# Altium footprint library Custom Components.PcbLib: 37 footprints (part 1 of 3)
Each footprint in its own frame and in the unit in brackets; x right, y up, seen from the top. Pads: shape width x height; smd on the part's side, far side on the other; paste and mask are expansions set on the pad; w line width, h text height; cw(c..) or ccw(c..) is an arc to the next point about the centre after c.
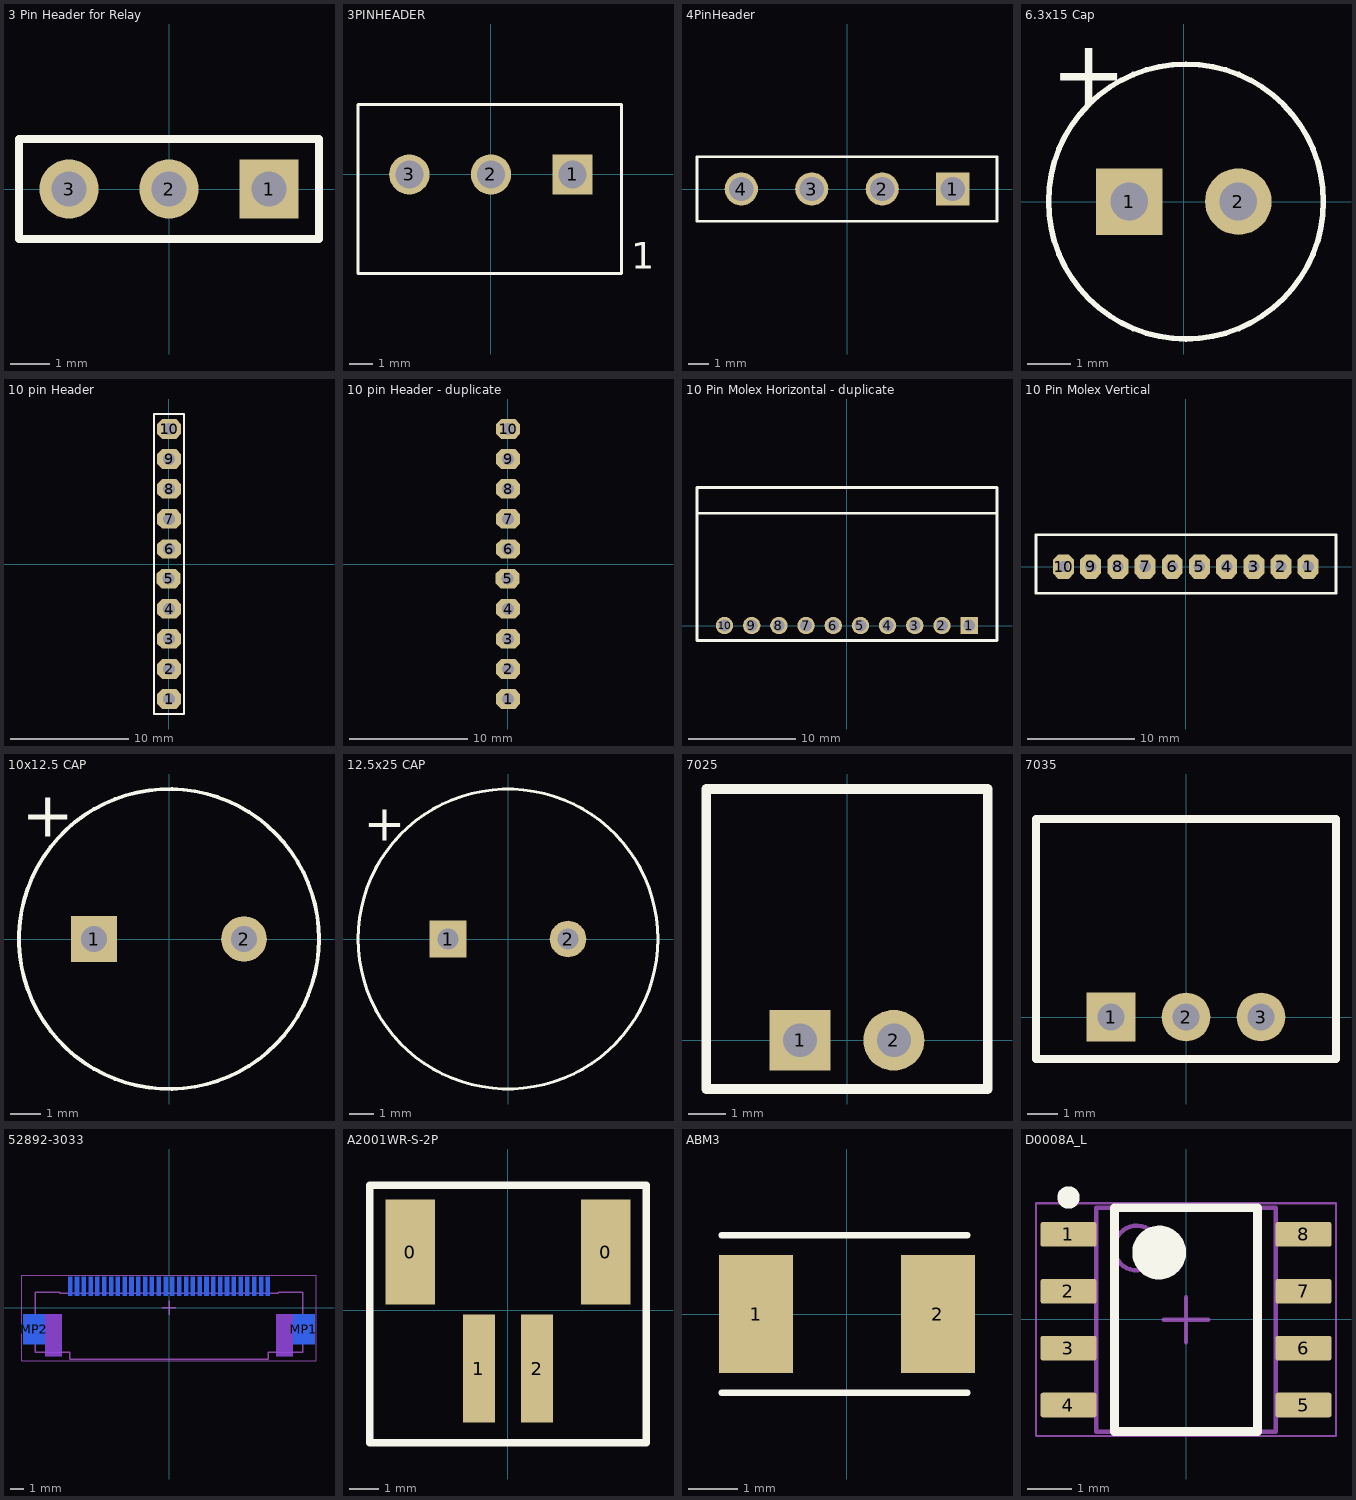
[diagram p0: the footprints below, top view; thin cyan lines are the x and y axes]

## 3 Pin Header for Relay [mm]
pads (3):
  rect 1.5x1.5 hole 0.9: 1(2.54,0)
  round 1.5 hole 0.9: 2(0,0) 3(-2.54,0)
Top Overlay:
  lines w0.2: -3.81,-1.27 3.81,-1.27 3.81,1.27 -3.81,1.27 -3.81,-1.27
Top Designator:
  text ".Designator" at -3.758,1.596 h0.89
3D body "Pin Header 1x3.step": height 8.72, standoff -2.82, extent -3.783,-1.289 3.837,1.251

## 3PINHEADER [mil] "3 Pin Header for Poenix right angle vertical"
pads (3):
  rect 68x68 hole 47.24: 1(137.8,0)
  round 68 hole 47.24: 2(0,0) 3(-137.8,0)
Top Overlay:
  lines w5: -224.41,-167.32 220.47,-167.32 220.47,118.11 -224.41,118.11 -224.41,-167.32
  text "1" at 237,-159.5 h45
Top Designator:
  text ".Designator" at -223.44,130.84 h35

## 4PinHeader [mm] "4 Pin Header for Poenix right angle vertical"
pads (4):
  rect 1.65x1.65 hole 1.2: 1(5.25,0)
  round 1.65 hole 1.2: 2(1.75,0) 3(-1.75,0) 4(-5.25,0)
Top Overlay:
  lines w0.127: -7.45,-1.6 7.45,-1.6 7.45,1.6 -7.45,1.6 -7.45,-1.6
Top Designator:
  text ".Designator" at -7.415,1.939 h0.89

## 6.3x15 Cap [mil] "6.3x15 Cap"
height 590.55
pads (2):
  rect 60x60 hole 34: 1(-49.21,0)
  round 60 hole 34: 2(49.21,0)
Top Overlay:
  circle w5: c1.97,0 r124.02
  text "+" at -120.08,86.61 h60
Top Designator:
  text ".Designator" at -160.94,-168.66 h35
3D body: height 590.55, standoff 0, extent -122.03,-124 125.96,124
3D body: height 78.74, standoff -39.37, extent -57.02,-7.85 -41.33,7.87
3D body: height 78.74, standoff -39.37, extent 41.41,-7.85 57.09,7.87

## 10 pin Header [mil] "10 pin header, vertical"
pads (10):
  oct 80x65 hole 40: 1(0,-450) 2(0,-350) 3(0,-250) 4(0,-150) 5(-1,-49) 6(0,50) 7(0,150) 8(0,250) 9(0,350) 10(0,450)
Top Overlay:
  lines w7.87: -50,-500 50,-500 50,500 -50,500 -50,-425 -50,-500
Top Designator:
  text ".Designator" at -86.34,-481.94 h35
3D body "10 Pin Header v2.step": height 340, standoff -130, extent -53,-497.2 47,502.8

## 10 pin Header - duplicate [mil] "10 pin header, vertical"
pads (10):
  oct 80x65 hole 40: 1(0,-450) 2(0,-350) 3(0,-250) 4(0,-150) 5(-1,-49) 6(0,50) 7(0,150) 8(0,250) 9(0,350) 10(0,450)
Bottom Overlay:
  lines w7.87: -50,-500 50,-500 50,500 -50,500 -50,-425 -50,-500
Top Designator:
  text ".Designator" at -73.94,-494.24 h35
3D body "10 Pin Header v2.step": height 352, standoff -118, extent -50,-501.7 50,498.3

## 10 Pin Molex Horizontal - duplicate [mil] "Horizontal Molex SL 10 Pin Connector"
height 275.59
pads (10):
  rect 64x64 hole 42.91: 1(450,0)
  round 64 hole 42.91: 2(350,0) 3(250,0) 4(150,0) 5(50,0) 6(-50,0) 7(-150,0) 8(-250,0) 9(-350,0) 10(-450,0)
Top Overlay:
  lines w10: -551.18,-55.12 -551.18,507.87 552.36,507.87 552.36,-55.12 -550,-55.12 ; -551.18,413.39 552.36,413.39
Top Designator:
  text ".Designator" at -589.84,-46.44 h35
3D body "705530044.stp": height 278.11, standoff -126.89, extent -552.76,-27.56 547.24,507.44

## 10 Pin Molex Vertical [mil] "Vertical Molex SL 10 Pin Connector"
height 450
pads (10):
  oct 77x90 hole 42: 1(450,0) 2(350,0) 3(250,0) 4(150,0) 5(50,0) 6(-50,0) 7(-150,0) 8(-250,0) 9(-350,0) 10(-450,0)
Top Overlay:
  lines w10: -551.18,-98.43 -551.18,117 552.36,117 552.36,-98.43 -551.18,-98.43
Top Designator:
  text ".Designator" at -543.94,154.84 h35
3D body "705430044.stp": height 467, standoff -128, extent -550,-97.43 550,162.57

## 10x12.5 CAP [mil] "10x12.5 CAP"
pads (2):
  rect 60x60 hole 34: 1(-98.43,0)
  round 60 hole 34: 2(98.43,0)
Top Overlay:
  circle w5: c0,0 r196.85
  text "+" at -192.91,133.86 h60
Top Designator:
  text ".Designator" at -184.94,-236.16 h35
3D body: height 492.13, standoff 0, extent -196.85,-196.84 196.86,196.86
3D body: height 78.74, standoff -39.37, extent -106.23,-7.85 -90.54,7.87
3D body: height 78.74, standoff -39.37, extent 90.62,-7.85 106.31,7.87

## 12.5x25 CAP [mil] "12.5x25 CAP"
height 984.25
pads (2):
  rect 60x60 hole 34: 1(-98.43,0)
  round 60 hole 34: 2(98.43,0)
Top Overlay:
  circle w5: c0,0 r246.06
  text "+" at -236.22,161.42 h60
Top Designator:
  text ".Designator" at -169.94,-288.66 h35
3D body: height 78.74, standoff -39.37, extent 90.62,-7.85 106.31,7.87
3D body: height 78.74, standoff -39.37, extent -106.23,-7.85 -90.54,7.87
3D body: height 984.25, standoff 0, extent -246.04,-246.04 246.04,246.04

## 7025 [mm] "MOLEX SPOX 2-terminal right angle through hole header"
pads (2):
  rect 1.626x1.626 hole 0.9: 1(-1.25,0)
  round 1.626 hole 0.9: 2(1.25,0)
Top Overlay:
  lines w0.254: -3.75,-1.3 -3.75,6.7 3.75,6.7 3.75,-1.3 -3.75,-1.3
Top Designator:
  text ".Designator" at -4.444,2.404 h0.89
3D body "022057025.stp": height 4.95, standoff -3.45, extent -3.7,-1.25 3.7,6.65

## 7035 [mil] "MOLEX SPOX 3-terminal right angle through hole header"
pads (3):
  rect 64x64 hole 35.43: 1(-98.43,0)
  round 64 hole 35.43: 2(0,0) 3(98.43,0)
Top Overlay:
  lines w10: -196.85,-55.12 -196.85,259.84 196.85,259.84 196.85,-55.12 -196.85,-55.12
Top Designator:
  text ".Designator" at -174.94,90.7 h35
3D body "022057035.stp": height 194.88, standoff -135.83, extent -194.88,-53.15 194.89,257.88

## 52892-3033 [mm] "0.5 mm Pitch Easy-On(TM) Type FPC Connector, 2.0 mm Mated Height, Right Angle, ZIF, SMT, Bottom Contact, 30 Circuits, -40 to 85 degC, ELV and RoHS Compliant, Tape and Reel"
height 2.052
pads (32):
  rect 0.3x1.4 smd far side: 1(7.25,1.575) 2(6.75,1.575) 3(6.25,1.575) 4(5.75,1.575) 5(5.25,1.575) 6(4.75,1.575) 7(4.25,1.575) 8(3.75,1.575) 9(3.25,1.575) 10(2.75,1.575) 11(2.25,1.575) 12(1.75,1.575) 13(1.25,1.575) 14(0.75,1.575) 15(0.25,1.575) 16(-0.25,1.575) 17(-0.75,1.575) 18(-1.25,1.575) 19(-1.75,1.575) 20(-2.25,1.575) 21(-2.75,1.575) 22(-3.25,1.575) 23(-3.75,1.575) 24(-4.25,1.575) 25(-4.75,1.575) 26(-5.25,1.575) 27(-5.75,1.575) 28(-6.25,1.575) 29(-6.75,1.575) 30(-7.25,1.575)
  rect 1.6x2.2 smd far side: MP1(9.9,-1.575) MP2(-9.9,-1.575)
Bottom Layer keep-out:
  region: 9.1,-0.475 7.85,-0.475 7.85,-3.575 9.1,-3.575
  region: -7.85,-0.475 -9.1,-0.475 -9.1,-3.575 -7.85,-3.575
Bottom Overlay:
  circle w0.25: c7.25,2.825 r0.125
  lines w0.2: -9.8,-3.275 9.8,-3.275 9.8,-3.075 ; -9.8,-3.275 -9.8,-3.075 ; -9.8,-0.075 -9.8,1.125 -7.8,1.125 ; 7.8,1.125 9.8,1.125 9.8,-0.075
Top Designator:
  text ".Designator" at -4.444,-0.709 h0.89
Mechanical 13:
  lines w0.1: -9.8,-3.275 -7.285,-3.275 -7.285,-3.775 7.285,-3.775 7.285,-3.275 9.8,-3.275 9.8,1.125 8,1.125 8,1.075 -8,1.075 -8,1.125 -9.8,1.125 -9.8,-3.275
Mechanical 15:
  lines w0.05: -10.8,-3.875 -10.8,2.375 10.8,2.375 10.8,-3.875 -10.8,-3.875
  lines w0.1: -0.5,0 0.5,0 ; 0,-0.5 0,0.5
3D body "528923033.stp": height 2.05, standoff 0.01, extent -10.2,-3.775 10.2,1.725

## A2001WR-S-2P [mm] "Surface Mount Right Angle Backlight Connector for COG LCD modules"
height 5.5
pads (4):
  rect 1.7x3.6 smd: 0(-3.35,2) 0(3.35,2)
  rect 1.1x3.7 smd: 1(-1,-2) 2(1,-2)
Top Overlay:
  lines w0.254: -4.75,-4.55 4.75,-4.55 4.75,-3.65 4.75,4.3 -4.75,4.3 -4.75,-4.55
Top Designator:
  text ".Designator" at -4.444,-0.421 h0.89
3D body: height 5.5, standoff 0, extent -4.749,-4.549 4.749,4.299

## ABM3 [mm] "8MHz Crystal SMD"
pads (2):
  rect 1.5x2.4 smd: 1(-1.85,0) 2(1.85,0)
Top Overlay:
  lines w0.127: -2.55,-1.6 2.45,-1.6 ; -2.55,1.6 2.45,1.6
Top Designator:
  text ".Designator" at -4.444,-0.296 h0.89

## D0008A_L [mm]
pads (8):
  rrect18% 1.25x0.55 smd: 1(-2.625,1.89) 2(-2.625,0.62) 3(-2.625,-0.65) 4(-2.625,-1.92) 5(2.625,-1.92) 6(2.625,-0.65) 7(2.625,0.62) 8(2.625,1.89)
Top Overlay:
  circle w0.6: c-0.6,1.485 r0.3
  circle w0.25: c-2.625,2.715 r0.125
  lines w0.2: -1.6,-2.515 1.6,-2.515 1.6,2.485 -1.6,2.485 -1.6,-2.515
  text ".Designator" at -3.239,3.24 h0.89
Top Designator:
  text ".Designator" at -3.239,0.537 h0.89
Mechanical 13:
  circle w0.1: c-1.1,1.585 r0.5
  lines w0.1: -2,-2.515 2,-2.515 2,2.485 -2,2.485 -2,-2.515
Mechanical 15:
  lines w0.05: -3.35,-2.615 3.35,-2.615 3.35,2.585 -3.35,2.585 -3.35,-2.615
  lines w0.1: -0.5,-0.015 0.5,-0.015 ; 0,-0.515 0,0.485
3D body "SOIC-8akaD0008AakaM08A.stp": height 1.63, standoff 0, extent -3,-2.465 3,2.435